# EAGLE library part 690368171272 (library Board-to-Board (rev18a))
WR-MM Female Angled Connector with Polarization and without Latch, 12 Pins=>Code : Con_BTB_MM_Female_THT_Ang_690368171272 <http://katalog.we-online.de/media/thumbs2/eican/thb_Con_BTB_MM_Female_THT_Ang_69036817xx72_pf2.jpg> Details see: http://katalog.we-online.de/en/em/6903_6817_xx_72 Created 2014-06-04, Karrer Zheng 2014 (C) Würth Elektronik
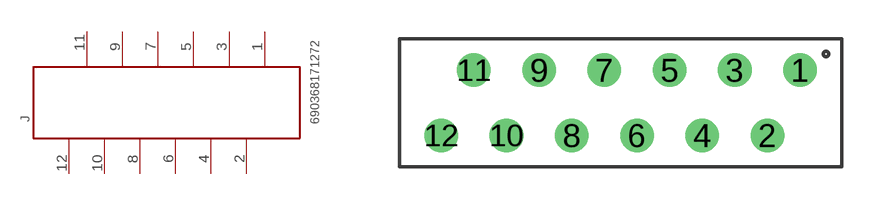
[diagram p374: symbol with the pads of 690368171272; footprint 690368171272]

Designator prefix J

## 690368171272  [690368171272]
1  12  pas
2  11  pas
3  10  pas
4  9  pas
5  8  pas
6  7  pas
7  6  pas
8  5  pas
9  4  pas
10  3  pas
11  2  pas
12  1  pas

## Footprint 690368171272 (pad centres in mm)
WR-MM Female Angled Connector with Polarization and without Latch, 12 Pins
drill 0.8: 1 6.985,1.27; 2 5.715,-1.27; 3 4.445,1.27; 4 3.175,-1.27; 5 1.905,1.27; 6 0.635,-1.27; 7 -0.635,1.27; 8 -1.905,-1.27; 9 -3.175,1.27; 10 -4.445,-1.27; 11 -5.715,1.27; 12 -6.985,-1.27